# Altium footprint library ece components.PcbLib: 102 footprints (part 2 of 7)
Each footprint in its own frame and in the unit in brackets; x right, y up, seen from the top. Pads: shape width x height; smd on the part's side, far side on the other; paste and mask are expansions set on the pad; w line width, h text height; cw(c..) or ccw(c..) is an arc to the next point about the centre after c.
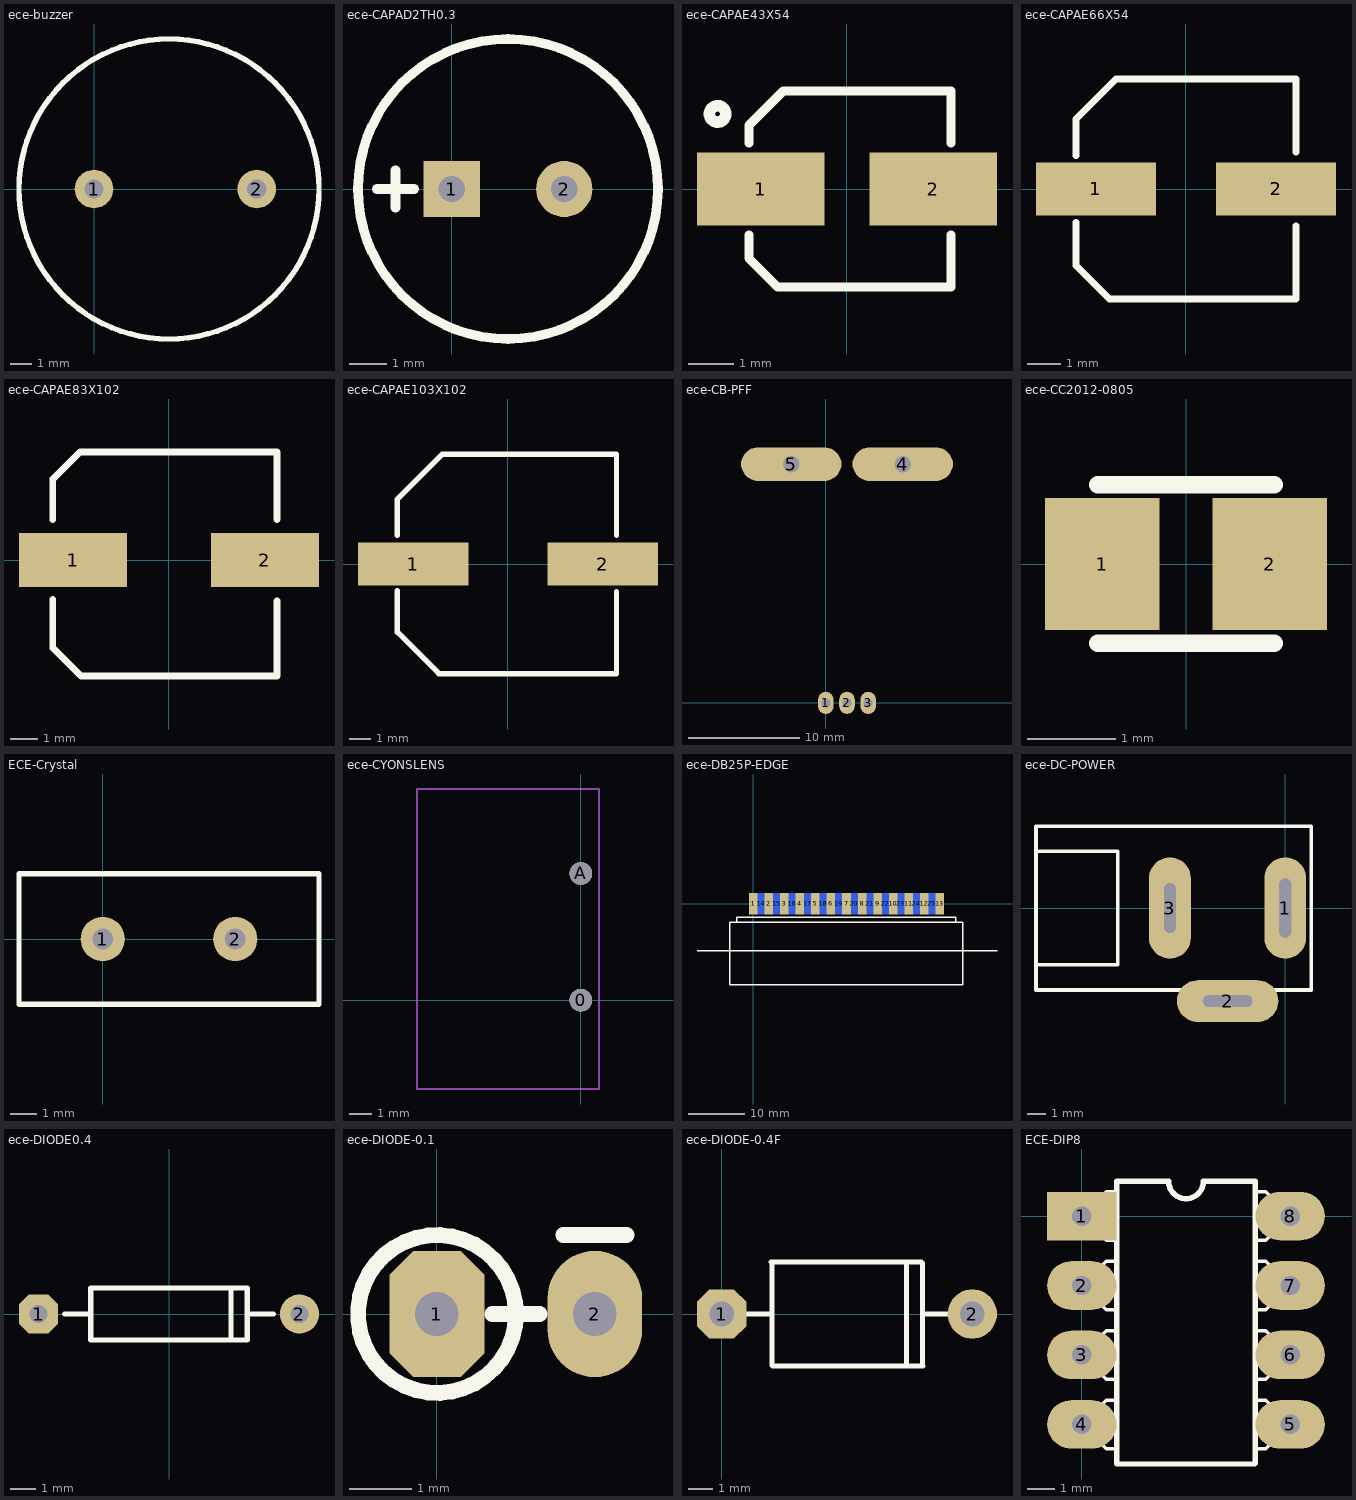
[diagram p1: the footprints below, top view; thin cyan lines are the x and y axes]

## ece-buzzer [mm]
height 7.5
pads (2):
  round 1.8 hole 0.9: 1(0,0) 2(7.6,0)
Top Overlay:
  circle w0.254: c3.5,0 r7

## ece-CAPAD2TH0.3 [mm]
pads (2):
  rect 1.5x1.5 hole 0.7: 1(0,0)
  round 1.5 hole 0.7: 2(3,0)
Top Overlay:
  circle w0.254: c1.5,0 r4
  lines w0.254: -2,0 -1,0 ; -1.5,-0.5 -1.5,0.5

## ece-CAPAE43X54 [mm] "Aluminium Electrolytic Case B"
height 5.4
pads (2):
  rect 2.8x1.6 smd: 1(-1.9,0) 2(1.9,0)
Top Overlay:
  circle w0.254: c-2.847,1.651 r0.18
  lines w0.2: -2.159,-1.016 -2.159,-1.524 -1.524,-2.159 2.286,-2.159 2.286,-1.016 ; -2.159,1.016 -2.159,1.397 -1.397,2.159 2.286,2.159 2.286,1.016

## ece-CAPAE66X54 [mm] "Aluminium Electrolytic Case D"
height 5.4
pads (2):
  rect 3.6x1.6 smd: 1(-2.7,0) 2(2.7,0)
Top Overlay:
  lines w0.2: -3.3,-1 -3.3,-2.25 -3.3,-2.3 -2.3,-3.3 -2.05,-3.3 3.3,-3.3 3.3,-1.1 ; -3.3,1 -3.3,2.1 -2.1,3.3 3.25,3.3 3.3,3.3 3.3,1.1

## ece-CAPAE83X102 [mm] "Aluminium Electrolytic Case F"
height 10.2
pads (2):
  rect 4x2 smd: 1(-3.55,0) 2(3.55,0)
Top Overlay:
  lines w0.254: -4.3,-1.45 -4.3,-3.25 -3.26,-4.29 4,-4.29 4,-1.5 ; -4.3,1.5 -4.3,3 -3.291,4.009 4,4.009 4,1.5

## ece-CAPAE103X102 [mm] "Aluminium Electrolytic Case G"
height 10.2
pads (2):
  rect 5.2x2 smd: 1(-4.45,0) 2(4.45,0)
Top Overlay:
  lines w0.254: -5.2,-1.25 -5.2,-3.2 -3.25,-5.15 5.1,-5.15 5.1,-1.3 ; -5.2,1.35 -5.2,3.05 -3.1,5.15 5.1,5.15 5.1,1.35

## ece-CB-PFF [mm]
pads (5):
  oval 1.4x2 hole 0.8: 1(0,0) 2(1.9,0) 3(3.8,0)
  oval 9x3 hole 1.5: 4(6.9,21.4) 5(-3.1,21.4)

## ece-CC2012-0805 [mm] "SM capacitor 0805"
pads (2):
  rect 1.3x1.5 smd: 1(-0.95,0) 2(0.95,0)
Top Overlay:
  lines w0.2: -1,-0.9 1,-0.9 ; -1,0.9 1,0.9
3D body "CAP_ 0805.STEP": height 1.2, standoff 0, extent -1,-0.6 1,0.6

## ECE-Crystal [mm]
pads (2):
  round 1.7 hole 0.8: 1(0,0) 2(5.08,0)
Top Overlay:
  lines w0.2: -3.21,-2.5 -3.21,2.5 8.29,2.5 8.29,-2.5 -3.21,-2.5

## ece-CYONSLENS [mm]
pads (2):
  round 1 hole 1: 0(0,0) A(0,5.57)
Mechanical 2:
  lines w0.1: -7.2,-3.9 0.8,-3.9 0.8,9.27 0.79,9.28 -7.2,9.28 -7.2,-3.9

## ece-DB25P-EDGE [mil]
pads (25):
  rect 60x150 smd: 1(0,0) 2(109,0) 3(218,0) 4(327,0) 5(436,0) 6(545,0) 7(654,0) 8(763,0) 9(872,0) 10(981,0) 11(1090,0) 12(1199,0) 13(1308,0)
  rect 60x150 smd far side: 14(54.5,0) 15(163.5,0) 16(272.5,0) 17(381.5,0) 18(490.5,0) 19(599.5,0) 20(708.5,0) 21(817.5,0) 22(926.5,0) 23(1035.5,0) 24(1144.5,0) 25(1253.5,0)
Top Overlay:
  lines w10: -395,-330 1710,-330 ; -115,-130 -115,-95 1420,-95 1420,-130 ; -165,-570 -165,-330 -165,-130 1470,-130 1470,-330 1470,-570 -165,-570

## ece-DC-POWER [mm]
pads (3):
  oval 2.25x5.45 hole 0.635 slot 3.175 at 90 deg: 1(0,0)
  oval 5.45x2.25 hole 0.635 slot 2.667 at 0 deg: 2(-3.1,-5)
  oval 2.25x5.45 hole 0.635 slot 2.667 at 90 deg: 3(-6.2,0)
Top Overlay:
  lines w0.2: -13.4,-3.05 -9,-3.05 -9,3.05 -13.4,3.05 ; -13.4,-4.4 1.4,-4.4 1.4,4.4 -13.4,4.4 -13.4,-4.4
  lines w0.5: -4.35,-4.25 -4.35,-5.25 -1.85,-5.25 -1.85,-4.25
Mechanical 1:
  lines w1: -6.2,-1.5 -6.2,1.7 ; -4.7,-5 -1.6,-5 ; 0,-1.6 0,1.6

## ece-DIODE0.4 [mil]
pads (2):
  oct 60x60 hole 27.56: 1(-200,0)
  round 60 hole 27.56: 2(200,0)
Top Overlay:
  lines w7.87: -160,0 -120,0 ; 120,0 160,0 ; -120,-40 120,-40 120,40 -120,40 -120,-40
  lines w8: 95,-40 95,40

## ece-DIODE-0.1 [mil]
pads (2):
  oct 60x80 hole 27.56: 1(0,0)
  oval 60x80 hole 27.56: 2(100,0)
Top Overlay:
  circle w10: c0,0 r50
  lines w10: 35,0 65,0 ; 80,50 120,50

## ece-DIODE-0.4F [mm] "free wheeling diode"
pads (2):
  oct 2x2 hole 1: 1(0,0)
  round 2 hole 1: 2(10.15,0)
Top Overlay:
  lines w0.2: 1.016,0 2.032,0 ; 2,2.1 8.096,2.1 ; 2.032,-2.082 2.032,-1.016 2.032,1.016 2.032,2.068 ; 2.05,-2.1 8.146,-2.1 ; 7.493,-2.093 7.493,-1.016 ; 7.493,1.016 7.493,2.057 ; 8.128,-2.082 8.128,2.068 8.128,1.016 8.128,-1.016 ; 8.128,0 9.144,0
  lines w0.203: 7.493,-1.016 7.493,1.016

## ECE-DIP8 [mil]
pads (8):
  rect 100x70 hole 28: 1(0,0)
  oval 100x70 hole 28: 2(0,-100) 3(0,-200) 4(0,-300) 5(300,-300) 6(300,-200) 7(300,-100) 8(300,0)
Top Overlay:
  lines w5: 50,-335 35,-335 15,-315 0,-315 0,-285 15,-285 35,-265 50,-265 ; 50,-235 35,-235 15,-215 0,-215 0,-185 15,-185 35,-165 50,-165 ; 50,-135 35,-135 15,-115 0,-115 0,-85 15,-85 35,-65 50,-65 ; 50,-35 35,-35 15,-15 0,-15 0,15 15,15 35,35 50,35 ; 250,-335 265,-335 285,-315 300,-315 300,-285 285,-285 265,-265 250,-265 ; 250,-235 265,-235 285,-215 300,-215 300,-185 285,-185 265,-165 250,-165 ; 250,-135 265,-135 285,-115 300,-115 300,-85 285,-85 265,-65 250,-65 ; 250,-35 265,-35 285,-15 300,-15 300,15 285,15 265,35 250,35
  lines w7.87: 50,50 50,-357.09 249.21,-357.09 ; 250,-356.3 250,50
  lines w8: 50,50 125,50 ccw(c150,50) 175,50 250,50